# Altium integrated library 503182-1852.IntLib: 1 symbol
Pins are listed as number, name and electrical type; pins without a type are passive.

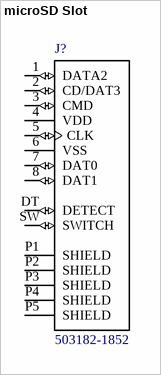
[diagram p0: symbol microSD Slot]

## microSD Slot
designator J?, comment 503182-1852
Conn Micro SD Card M 8 POS 1.09mm Solder RA SMD Embossed T/R 0.5A/Contact; MF: Molex; Package: None; MP: 503182-1852; Price: None; Availability: Unavailable; SnapEDA_Link: https://www.snapeda.com/parts/503182-1852/Molex/view-part/?ref=snap; Value: *
footprint MOLEX_503182-1852_503182-1852(Primary)
pins: 1 DATA2 (io), 2 CD/DAT3 (io), 3 CMD (io), 4 VDD (power), 5 CLK (io), 6 VSS (power), 7 DAT0 (io), 8 DAT1 (io), DT DETECT (io), P1 SHIELD, P2 SHIELD, P3 SHIELD, P4 SHIELD, P5 SHIELD, SW SWITCH (io)